# Altium footprint library FT230XS.PcbLib: 2 footprints
Each footprint in its own frame and in the unit in brackets; x right, y up, seen from the top. Pads: shape width x height; smd on the part's side, far side on the other; paste and mask are expansions set on the pad; w line width, h text height; cw(c..) or ccw(c..) is an arc to the next point about the centre after c.
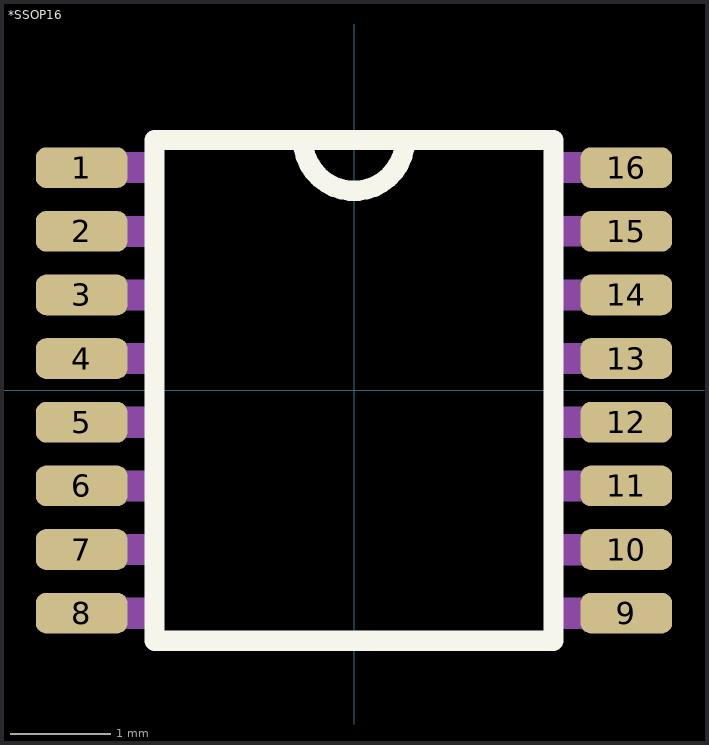
[diagram p0: the footprints below, top view; thin cyan lines are the x and y axes]

## *SSOP16 [mil]
pads (16):
  rrect50% 36x16 smd: 1(-107,87.5) 2(-107,62.5) 3(-107,37.5) 4(-107,12.5) 5(-107,-12.5) 6(-107,-37.5) 7(-107,-62.5) 8(-107,-87.5) 9(107,-87.5) 10(107,-62.5) 11(107,-37.5) 12(107,-12.5) 13(107,12.5) 14(107,37.5) 15(107,62.5) 16(107,87.5)
Top Overlay:
  lines w8: -20,98.4 ccw(c0,98.4) 20,98.4 ; -78.4,-98.4 -78.4,98.4 78.4,98.4 78.4,-98.4 -78.4,-98.4
Mechanical 4:
  region: 78.59,93.5 122,93.5 122,81.59 78.59,81.59
  region: 78.58,68.5 122,68.5 122,56.56 78.58,56.56
  region: 78.59,43.5 122,43.5 122,31.54 78.59,31.54
  region: 78.53,18.5 122,18.5 122,6.5 78.53,6.5
  region: 78.62,-6.5 122,-6.5 122,-18.53 78.62,-18.53
  region: 78.6,-31.5 122,-31.5 122,-43.56 78.6,-43.56
  region: 78.61,-56.5 122,-56.5 122,-68.6 78.61,-68.6
  region: 78.53,-81.5 122,-81.5 122,-93.53 78.53,-93.53
  region: -122.08,-81.5 -78.5,-81.5 -78.5,-93.56 -122.08,-93.56
  region: -122.03,-56.5 -78.5,-56.5 -78.5,-68.52 -122.03,-68.52
  region: -122.13,-31.5 -78.5,-31.5 -78.5,-43.55 -122.13,-43.55
  region: -122.18,-6.5 -78.5,-6.5 -78.5,-18.53 -122.18,-18.53
  region: -122.23,18.5 -78.5,18.5 -78.5,6.51 -122.23,6.51
  region: -122.17,43.5 -78.5,43.5 -78.5,31.54 -122.17,31.54
  region: -122.07,68.5 -78.5,68.5 -78.5,56.53 -122.07,56.53
  region: -122.11,93.5 -78.5,93.5 -78.5,81.57 -122.11,81.57
  region: 78.59,93.5 122,93.5 122,81.59 78.59,81.59
  region: 78.58,68.5 122,68.5 122,56.56 78.58,56.56
  region: 78.59,43.5 122,43.5 122,31.54 78.59,31.54
  region: 78.53,18.5 122,18.5 122,6.5 78.53,6.5
  region: 78.62,-6.5 122,-6.5 122,-18.53 78.62,-18.53
  region: 78.6,-31.5 122,-31.5 122,-43.56 78.6,-43.56
  region: 78.61,-56.5 122,-56.5 122,-68.6 78.61,-68.6
  region: 78.53,-81.5 122,-81.5 122,-93.53 78.53,-93.53
  region: -122.08,-81.5 -78.5,-81.5 -78.5,-93.56 -122.08,-93.56
  region: -122.03,-56.5 -78.5,-56.5 -78.5,-68.52 -122.03,-68.52
  region: -122.13,-31.5 -78.5,-31.5 -78.5,-43.55 -122.13,-43.55
  region: -122.18,-6.5 -78.5,-6.5 -78.5,-18.53 -122.18,-18.53
  region: -122.23,18.5 -78.5,18.5 -78.5,6.51 -122.23,6.51
  region: -122.17,43.5 -78.5,43.5 -78.5,31.54 -122.17,31.54
  region: -122.07,68.5 -78.5,68.5 -78.5,56.53 -122.07,56.53
  region: -122.11,93.5 -78.5,93.5 -78.5,81.57 -122.11,81.57

## PCBComponent_1 [mil]